# EAGLE library part LORASX1278 (library sx1278)
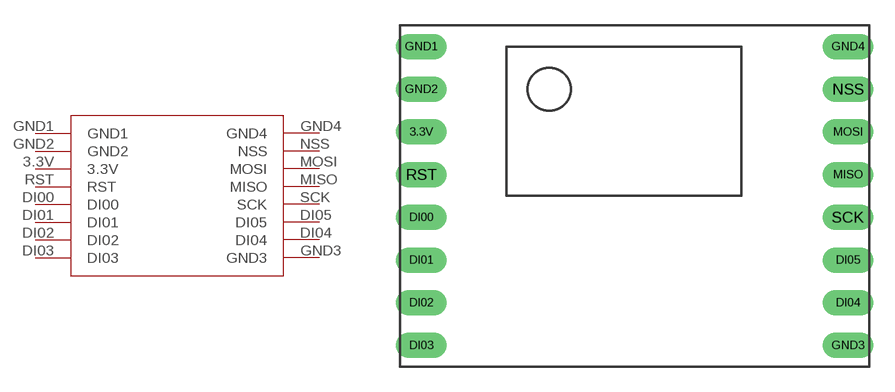
[diagram p0: symbol with the pads of LORASX1278; footprint LORASX1278]

Designator prefix -

## LORASX1278  [LORASX1278]
3.3V  3.3V
DI00  DI00
DI01  DI01
DI02  DI02
DI03  DI03
DI04  DI04
DI05  DI05
GND1  GND1
GND2  GND2
GND3  GND3
GND4  GND4
MISO  MISO
MOSI  MOSI
NSS  NSS
RST  RST
SCK  SCK

## Footprint LORASX1278 (pad centres in mm)
drill 1 long: 3.3V -12.7,0; DI00 -12.7,-5.08; DI01 -12.7,-7.62; DI02 -12.7,-10.16; DI03 -12.7,-12.7; DI04 12.7,-10.16; DI05 12.7,-7.62; GND1 -12.7,5.08; GND2 -12.7,2.54; GND3 12.7,-12.7; GND4 12.7,5.08; MISO 12.7,-2.54; MOSI 12.7,0; NSS 12.7,2.54; RST -12.7,-2.54; SCK 12.7,-5.08